# Altium footprint library GY-953.PcbLib: 1 footprints
Each footprint in its own frame and in the unit in brackets; x right, y up, seen from the top. Pads: shape width x height; smd on the part's side, far side on the other; paste and mask are expansions set on the pad; w line width, h text height; cw(c..) or ccw(c..) is an arc to the next point about the centre after c.
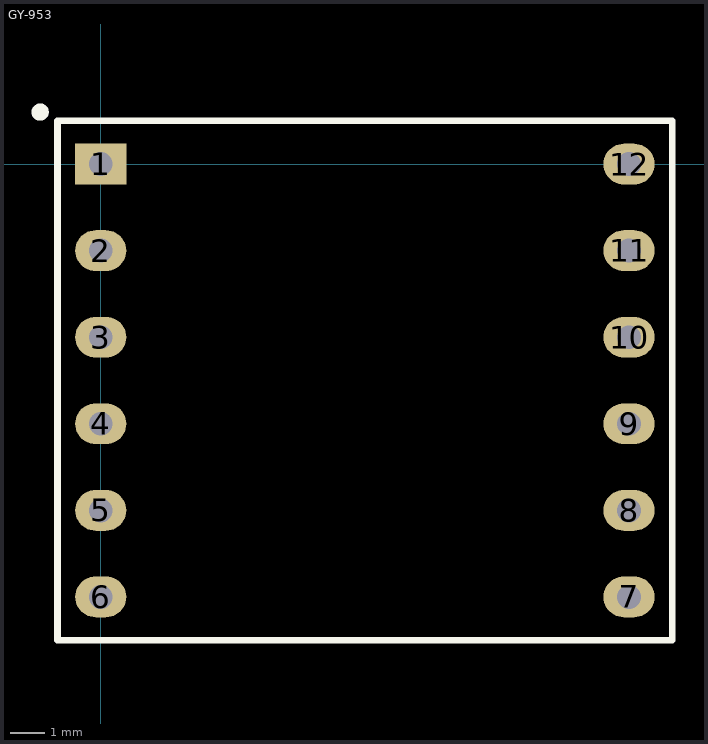
[diagram p0: the footprint, top view; thin cyan lines are the x and y axes]

## GY-953 [mm]
pads (12):
  rect 1.5x1.2 hole 0.7: 1(0,0)
  oval 1.5x1.2 hole 0.7: 2(0,-2.54) 3(0,-5.08) 4(0,-7.62) 5(0,-10.16) 6(0,-12.7) 7(15.5,-12.7) 8(15.5,-10.16) 9(15.5,-7.62) 10(15.5,-5.08) 11(15.5,-2.54) 12(15.5,0)
Top Overlay:
  circle w0.254: c-1.778,1.524 r0.127
  lines w0.2: 6.858,1.27 16.764,1.27 16.764,-13.97 -1.27,-13.97 -1.27,1.27 7.115,1.27